# Altium footprint library SOT23-6.PcbLib: 1 footprints
Each footprint in its own frame and in the unit in brackets; x right, y up, seen from the top. Pads: shape width x height; smd on the part's side, far side on the other; paste and mask are expansions set on the pad; w line width, h text height; cw(c..) or ccw(c..) is an arc to the next point about the centre after c.
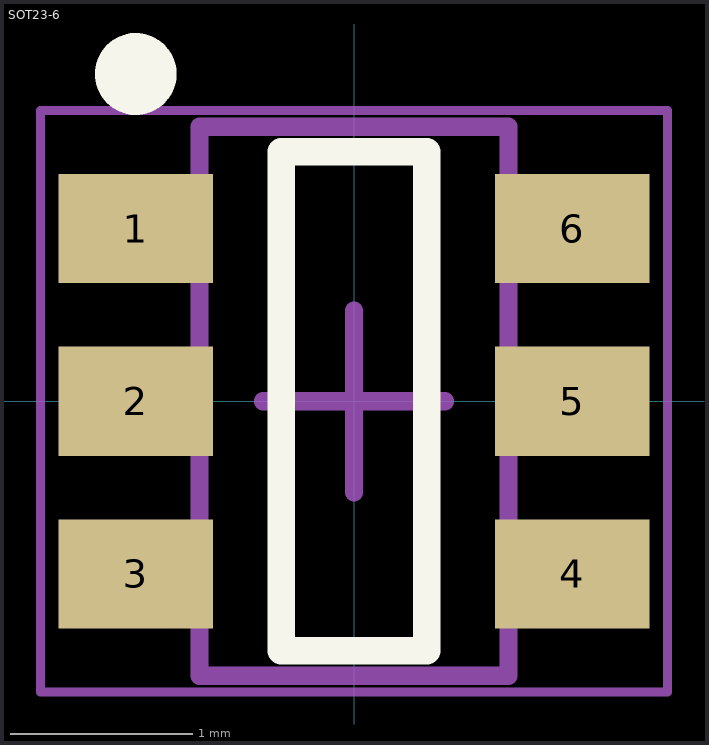
[diagram p0: the footprint, top view; thin cyan lines are the x and y axes]

## SOT23-6 [mm] "SOT23-6 L2.95*W3.020H1.250(mm)"
height 1.25
pads (6):
  rect 0.85x0.6 smd: 1(-1.2,0.95) 2(-1.2,0) 3(-1.2,-0.95) 4(1.2,-0.95) 5(1.2,0) 6(1.2,0.95)
Top Overlay:
  circle w0.25: c-1.2,1.8 r0.1
  lines w0.152: -0.4,-1.372 -0.4,1.372 0.4,1.372 0.4,-1.372 -0.4,-1.372
Mechanical 13:
  lines w0.1: -0.85,-1.51 0.85,-1.51 0.85,1.51 -0.85,1.51 -0.85,-1.51
Mechanical 15:
  lines w0.05: -1.725,-1.6 1.725,-1.6 1.725,1.6 -1.725,1.6 -1.725,-1.6
  lines w0.1: -0.5,0 0.5,0 ; 0,-0.5 0,0.5
3D body: height 1.08, standoff -0.01, extent -1.219,-1.397 1.207,1.397